# Altium schematic symbol library robo_module_connector.SchLib: 1 symbol
Pins are listed as number, name and electrical type; pins without a type are passive.

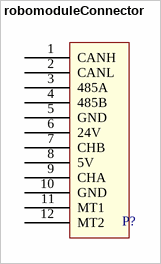
[diagram p0: symbol robomoduleConnector]

## robomoduleConnector
designator P?, comment Robo Module Connector  (value not drawn)
footprint robomoduleConnector (Footprint not found)
pins: 1 CANH, 2 CANL, 3 485A, 4 485B, 5 GND, 6 24V, 7 CHB, 8 5V, 9 CHA, 10 GND, 11 MT1, 12 MT2